# Altium schematic symbol library WE-MCI.SchLib: 49 symbols
Pins are listed as number, name and electrical type; pins without a type are passive.

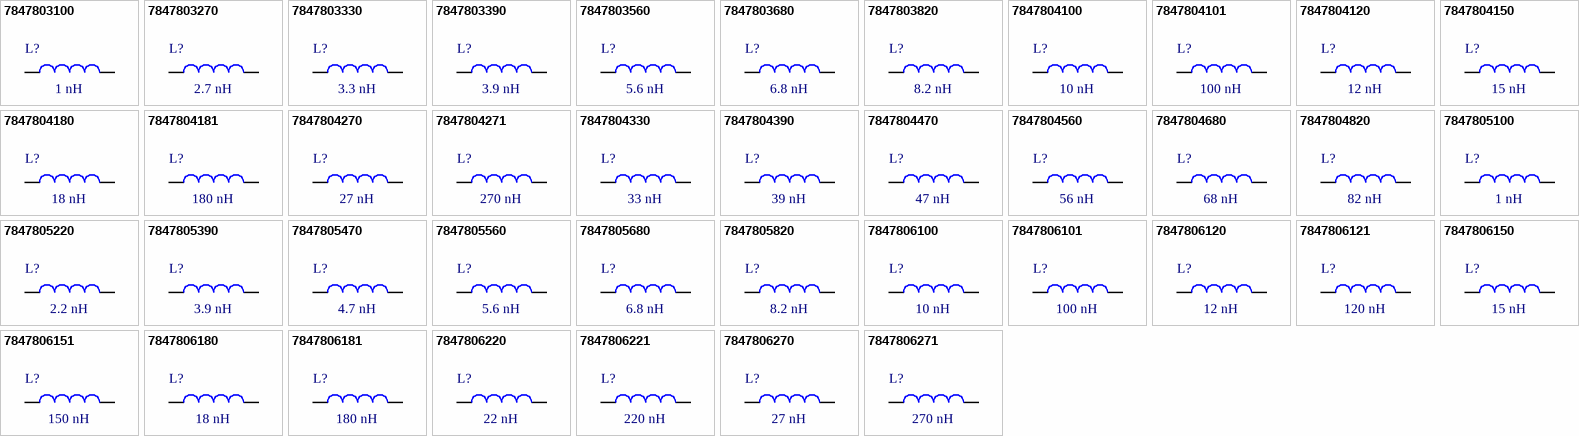
[diagram p0: symbols 7847803100 to 7847806271]

## 7847803100
designator L?, comment 1 nH
WE-MCI Multilayer Ceramic SMT Inductor, size 0402, 1 nH, 300 mA, 100 mΩ; Manufacturer Part Number: 7847803100; Manufacturer: Wurth Elektronik; Case/Size Code: 0402; DC Resistance Max: 100 mΩ; Inductance Tolerance: ±0.3nH; Q Factor Min: 8; Q Factor Test Condition: 100 MHz; Rated Current: 300 mA; Self Resonant Frequency: 8000 MHz; Category: RF Inductors; Match Code: WE-MCI; ComponentLink1Description: Website Link; ComponentLink1URL: https://www.we-online.com/redexpert/article/7847803100?ad; ComponentLink2Description: Datasheet Link; ComponentLink2URL: https://www.we-online.com/redexpert/spec/7847803100?ad; Mount: Surface Mount; Min Operating Temperature: -55 °C; Max Operating Temperature: 125 °C; Packaging: Tape and Reel; Length: 1 mm; Width: 0.5 mm; Height: 0.5 mm; Inductance: 1 nH
footprint WE-MCI_0402
simulation model 0402_7847803100_1n
pins: 1, 2

## 7847803270
designator L?, comment 2.7 nH
WE-MCI Multilayer Ceramic SMT Inductor, size 0402, 2.7 nH, 300 mA, 170 mΩ; Manufacturer Part Number: 7847803270; Manufacturer: Wurth Elektronik; Case/Size Code: 0402; DC Resistance Max: 170 mΩ; Inductance Tolerance: ±0.3nH; Q Factor Min: 8; Q Factor Test Condition: 100 MHz; Rated Current: 300 mA; Self Resonant Frequency: 6000 MHz; Category: RF Inductors; Match Code: WE-MCI; ComponentLink1Description: Website Link; ComponentLink1URL: https://www.we-online.com/redexpert/article/7847803270?ad; ComponentLink2Description: Datasheet Link; ComponentLink2URL: https://www.we-online.com/redexpert/spec/7847803270?ad; Mount: Surface Mount; Min Operating Temperature: -55 °C; Max Operating Temperature: 125 °C; Packaging: Tape and Reel; Length: 1 mm; Width: 0.5 mm; Height: 0.5 mm; Inductance: 2.7 nH
footprint WE-MCI_0402
simulation model 0402_7847803270_2.7n
pins: 1, 2

## 7847803330
designator L?, comment 3.3 nH
WE-MCI Multilayer Ceramic SMT Inductor, size 0402, 3.3 nH, 300 mA, 190 mΩ; Manufacturer Part Number: 7847803330; Manufacturer: Wurth Elektronik; Case/Size Code: 0402; DC Resistance Max: 190 mΩ; Inductance Tolerance: ±0.3nH; Q Factor Min: 8; Q Factor Test Condition: 100 MHz; Rated Current: 300 mA; Self Resonant Frequency: 6000 MHz; Category: RF Inductors; Match Code: WE-MCI; ComponentLink1Description: Website Link; ComponentLink1URL: https://www.we-online.com/redexpert/article/7847803330?ad; ComponentLink2Description: Datasheet Link; ComponentLink2URL: https://www.we-online.com/redexpert/spec/7847803330?ad; Mount: Surface Mount; Min Operating Temperature: -55 °C; Max Operating Temperature: 125 °C; Packaging: Tape and Reel; Length: 1 mm; Width: 0.5 mm; Height: 0.5 mm; Inductance: 3.3 nH
footprint WE-MCI_0402
simulation model 0402_7847803330_3.3n
pins: 1, 2

## 7847803390
designator L?, comment 3.9 nH
WE-MCI Multilayer Ceramic SMT Inductor, size 0402, 3.9 nH, 300 mA, 190 mΩ; Manufacturer Part Number: 7847803390; Manufacturer: Wurth Elektronik; Case/Size Code: 0402; DC Resistance Max: 190 mΩ; Inductance Tolerance: ±0.3nH; Q Factor Min: 8; Q Factor Test Condition: 100 MHz; Rated Current: 300 mA; Self Resonant Frequency: 6000 MHz; Category: RF Inductors; Match Code: WE-MCI; ComponentLink1Description: Website Link; ComponentLink1URL: https://www.we-online.com/redexpert/article/7847803390?ad; ComponentLink2Description: Datasheet Link; ComponentLink2URL: https://www.we-online.com/redexpert/spec/7847803390?ad; Mount: Surface Mount; Min Operating Temperature: -55 °C; Max Operating Temperature: 125 °C; Packaging: Tape and Reel; Length: 1 mm; Width: 0.5 mm; Height: 0.5 mm; Inductance: 3.9 nH
footprint WE-MCI_0402
simulation model 0402_7847803390_3.9n
pins: 1, 2

## 7847803560
designator L?, comment 5.6 nH
WE-MCI Multilayer Ceramic SMT Inductor, size 0402, 5.6 nH, 300 mA, 260 mΩ; Manufacturer Part Number: 7847803560; Manufacturer: Wurth Elektronik; Case/Size Code: 0402; DC Resistance Max: 260 mΩ; Inductance Tolerance: ±0.3nH; Q Factor Min: 8; Q Factor Test Condition: 100 MHz; Rated Current: 300 mA; Self Resonant Frequency: 5300 MHz; Category: RF Inductors; Match Code: WE-MCI; ComponentLink1Description: Website Link; ComponentLink1URL: https://www.we-online.com/redexpert/article/7847803560?ad; ComponentLink2Description: Datasheet Link; ComponentLink2URL: https://www.we-online.com/redexpert/spec/7847803560?ad; Mount: Surface Mount; Min Operating Temperature: -55 °C; Max Operating Temperature: 125 °C; Packaging: Tape and Reel; Length: 1 mm; Width: 0.5 mm; Height: 0.5 mm; Inductance: 5.6 nH
footprint WE-MCI_0402
simulation model 0402_7847803560_5.6n
pins: 1, 2

## 7847803680
designator L?, comment 6.8 nH
WE-MCI Multilayer Ceramic SMT Inductor, size 0402, 6.8 nH, 300 mA, 290 mΩ; Manufacturer Part Number: 7847803680; Manufacturer: Wurth Elektronik; Case/Size Code: 0402; DC Resistance Max: 290 mΩ; Inductance Tolerance: ±5%; Q Factor Min: 8; Q Factor Test Condition: 100 MHz; Rated Current: 300 mA; Self Resonant Frequency: 4200 MHz; Category: RF Inductors; Match Code: WE-MCI; ComponentLink1Description: Website Link; ComponentLink1URL: https://www.we-online.com/redexpert/article/7847803680?ad; ComponentLink2Description: Datasheet Link; ComponentLink2URL: https://www.we-online.com/redexpert/spec/7847803680?ad; Mount: Surface Mount; Min Operating Temperature: -55 °C; Max Operating Temperature: 125 °C; Packaging: Tape and Reel; Length: 1 mm; Width: 0.5 mm; Height: 0.5 mm; Inductance: 6.8 nH
footprint WE-MCI_0402
simulation model 0402_7847803680_6.8n
pins: 1, 2

## 7847803820
designator L?, comment 8.2 nH
WE-MCI Multilayer Ceramic SMT Inductor, size 0402, 8.2 nH, 300 mA, 330 mΩ; Manufacturer Part Number: 7847803820; Manufacturer: Wurth Elektronik; Case/Size Code: 0402; DC Resistance Max: 330 mΩ; Inductance Tolerance: ±5%; Q Factor Min: 8; Q Factor Test Condition: 100 MHz; Rated Current: 300 mA; Self Resonant Frequency: 3600 MHz; Category: RF Inductors; Match Code: WE-MCI; ComponentLink1Description: Website Link; ComponentLink1URL: https://www.we-online.com/redexpert/article/7847803820?ad; ComponentLink2Description: Datasheet Link; ComponentLink2URL: https://www.we-online.com/redexpert/spec/7847803820?ad; Mount: Surface Mount; Min Operating Temperature: -55 °C; Max Operating Temperature: 125 °C; Packaging: Tape and Reel; Length: 1 mm; Width: 0.5 mm; Height: 0.5 mm; Inductance: 8.2 nH
footprint WE-MCI_0402
simulation model 0402_7847803820_8.2n
pins: 1, 2

## 7847804100
designator L?, comment 10 nH
WE-MCI Multilayer Ceramic SMT Inductor, size 0402, 10 nH, 300 mA, 350 mΩ; Manufacturer Part Number: 7847804100; Manufacturer: Wurth Elektronik; Case/Size Code: 0402; DC Resistance Max: 350 mΩ; Inductance Tolerance: ±5%; Q Factor Min: 8; Q Factor Test Condition: 100 MHz; Rated Current: 300 mA; Self Resonant Frequency: 3200 MHz; Category: RF Inductors; Match Code: WE-MCI; ComponentLink1Description: Website Link; ComponentLink1URL: https://www.we-online.com/redexpert/article/7847804100?ad; ComponentLink2Description: Datasheet Link; ComponentLink2URL: https://www.we-online.com/redexpert/spec/7847804100?ad; Mount: Surface Mount; Min Operating Temperature: -55 °C; Max Operating Temperature: 125 °C; Packaging: Tape and Reel; Length: 1 mm; Width: 0.5 mm; Height: 0.5 mm; Inductance: 10 nH
footprint WE-MCI_0402
simulation model 0402_7847804100_10n
pins: 1, 2

## 7847804101
designator L?, comment 100 nH
WE-MCI Multilayer Ceramic SMT Inductor, size 0402, 100 nH, 150 mA, 1.6 Ω; Manufacturer Part Number: 7847804101; Manufacturer: Wurth Elektronik; Case/Size Code: 0402; DC Resistance Max: 1.6 Ω; Inductance Tolerance: ±5%; Q Factor Min: 8; Q Factor Test Condition: 100 MHz; Rated Current: 150 mA; Self Resonant Frequency: 600 MHz; Category: RF Inductors; Match Code: WE-MCI; ComponentLink1Description: Website Link; ComponentLink1URL: https://www.we-online.com/redexpert/article/7847804101?ad; ComponentLink2Description: Datasheet Link; ComponentLink2URL: https://www.we-online.com/redexpert/spec/7847804101?ad; Mount: Surface Mount; Min Operating Temperature: -55 °C; Max Operating Temperature: 125 °C; Packaging: Tape and Reel; Length: 1 mm; Width: 0.5 mm; Height: 0.5 mm; Inductance: 100 nH
footprint WE-MCI_0402
simulation model 0402_7847804101_100n
pins: 1, 2

## 7847804120
designator L?, comment 12 nH
WE-MCI Multilayer Ceramic SMT Inductor, size 0402, 12 nH, 300 mA, 410 mΩ; Manufacturer Part Number: 7847804120; Manufacturer: Wurth Elektronik; Case/Size Code: 0402; DC Resistance Max: 410 mΩ; Inductance Tolerance: ±5%; Q Factor Min: 8; Q Factor Test Condition: 100 MHz; Rated Current: 300 mA; Self Resonant Frequency: 2800 MHz; Category: RF Inductors; Match Code: WE-MCI; ComponentLink1Description: Website Link; ComponentLink1URL: https://www.we-online.com/redexpert/article/7847804120?ad; ComponentLink2Description: Datasheet Link; ComponentLink2URL: https://www.we-online.com/redexpert/spec/7847804120?ad; Mount: Surface Mount; Min Operating Temperature: -55 °C; Max Operating Temperature: 125 °C; Packaging: Tape and Reel; Length: 1 mm; Width: 0.5 mm; Height: 0.5 mm; Inductance: 12 nH
footprint WE-MCI_0402
simulation model 0402_7847804120_12n
pins: 1, 2

## 7847804150
designator L?, comment 15 nH
WE-MCI Multilayer Ceramic SMT Inductor, size 0402, 15 nH, 300 mA, 460 mΩ; Manufacturer Part Number: 7847804150; Manufacturer: Wurth Elektronik; Case/Size Code: 0402; DC Resistance Max: 460 mΩ; Inductance Tolerance: ±5%; Q Factor Min: 8; Q Factor Test Condition: 100 MHz; Rated Current: 300 mA; Self Resonant Frequency: 2300 MHz; Category: RF Inductors; Match Code: WE-MCI; ComponentLink1Description: Website Link; ComponentLink1URL: https://www.we-online.com/redexpert/article/7847804150?ad; ComponentLink2Description: Datasheet Link; ComponentLink2URL: https://www.we-online.com/redexpert/spec/7847804150?ad; Mount: Surface Mount; Min Operating Temperature: -55 °C; Max Operating Temperature: 125 °C; Packaging: Tape and Reel; Length: 1 mm; Width: 0.5 mm; Height: 0.5 mm; Inductance: 15 nH
footprint WE-MCI_0402
simulation model 0402_7847804150_15n
pins: 1, 2

## 7847804180
designator L?, comment 18 nH
WE-MCI Multilayer Ceramic SMT Inductor, size 0402, 18 nH, 300 mA, 510 mΩ; Manufacturer Part Number: 7847804180; Manufacturer: Wurth Elektronik; Case/Size Code: 0402; DC Resistance Max: 510 mΩ; Inductance Tolerance: ±5%; Q Factor Min: 8; Q Factor Test Condition: 100 MHz; Rated Current: 300 mA; Self Resonant Frequency: 2100 MHz; Category: RF Inductors; Match Code: WE-MCI; ComponentLink1Description: Website Link; ComponentLink1URL: https://www.we-online.com/redexpert/article/7847804180?ad; ComponentLink2Description: Datasheet Link; ComponentLink2URL: https://www.we-online.com/redexpert/spec/7847804180?ad; Mount: Surface Mount; Min Operating Temperature: -55 °C; Max Operating Temperature: 125 °C; Packaging: Tape and Reel; Length: 1 mm; Width: 0.5 mm; Height: 0.5 mm; Inductance: 18 nH
footprint WE-MCI_0402
simulation model 0402_7847804180_18n
pins: 1, 2

## 7847804181
designator L?, comment 180 nH
WE-MCI Multilayer Ceramic SMT Inductor, size 0402, 180 nH, 150 mA, 3.38 Ω; Manufacturer Part Number: 7847804181; Manufacturer: Wurth Elektronik; Case/Size Code: 0402; DC Resistance Max: 3.38 Ω; Inductance Tolerance: ±5%; Q Factor Min: 8; Q Factor Test Condition: 100 MHz; Rated Current: 150 mA; Self Resonant Frequency: 500 MHz; Category: RF Inductors; Match Code: WE-MCI; ComponentLink1Description: Website Link; ComponentLink1URL: https://www.we-online.com/redexpert/article/7847804181?ad; ComponentLink2Description: Datasheet Link; ComponentLink2URL: https://www.we-online.com/redexpert/spec/7847804181?ad; Mount: Surface Mount; Min Operating Temperature: -55 °C; Max Operating Temperature: 125 °C; Packaging: Tape and Reel; Length: 1 mm; Width: 0.5 mm; Height: 0.5 mm; Inductance: 180 nH
footprint WE-MCI_0402
simulation model 0402_7847804181_180n
pins: 1, 2

## 7847804270
designator L?, comment 27 nH
WE-MCI Multilayer Ceramic SMT Inductor, size 0402, 27 nH, 300 mA, 670 mΩ; Manufacturer Part Number: 7847804270; Manufacturer: Wurth Elektronik; Case/Size Code: 0402; DC Resistance Max: 670 mΩ; Inductance Tolerance: ±5%; Q Factor Min: 8; Q Factor Test Condition: 100 MHz; Rated Current: 300 mA; Self Resonant Frequency: 1600 MHz; Category: RF Inductors; Match Code: WE-MCI; ComponentLink1Description: Website Link; ComponentLink1URL: https://www.we-online.com/redexpert/article/7847804270?ad; ComponentLink2Description: Datasheet Link; ComponentLink2URL: https://www.we-online.com/redexpert/spec/7847804270?ad; Mount: Surface Mount; Min Operating Temperature: -55 °C; Max Operating Temperature: 125 °C; Packaging: Tape and Reel; Length: 1 mm; Width: 0.5 mm; Height: 0.5 mm; Inductance: 27 nH
footprint WE-MCI_0402
simulation model 0402_7847804270_27n
pins: 1, 2

## 7847804271
designator L?, comment 270 nH
WE-MCI Multilayer Ceramic SMT Inductor, size 0402, 270 nH, 110 mA, 4.9 Ω; Manufacturer Part Number: 7847804271; Manufacturer: Wurth Elektronik; Case/Size Code: 0402; DC Resistance Max: 4.9 Ω; Inductance Tolerance: ±5%; Q Factor Min: 8; Q Factor Test Condition: 100 MHz; Rated Current: 110 mA; Self Resonant Frequency: 500 MHz; Category: RF Inductors; Match Code: WE-MCI; ComponentLink1Description: Website Link; ComponentLink1URL: https://www.we-online.com/redexpert/article/7847804271?ad; ComponentLink2Description: Datasheet Link; ComponentLink2URL: https://www.we-online.com/redexpert/spec/7847804271?ad; Mount: Surface Mount; Min Operating Temperature: -55 °C; Max Operating Temperature: 125 °C; Packaging: Tape and Reel; Length: 1 mm; Width: 0.5 mm; Height: 0.5 mm; Inductance: 270 nH
footprint WE-MCI_0402
simulation model 0402_7847804271_270n
pins: 1, 2

## 7847804330
designator L?, comment 33 nH
WE-MCI Multilayer Ceramic SMT Inductor, size 0402, 33 nH, 200 mA, 670 mΩ; Manufacturer Part Number: 7847804330; Manufacturer: Wurth Elektronik; Case/Size Code: 0402; DC Resistance Max: 670 mΩ; Inductance Tolerance: ±5%; Q Factor Min: 8; Q Factor Test Condition: 100 MHz; Rated Current: 200 mA; Self Resonant Frequency: 1500 MHz; Category: RF Inductors; Match Code: WE-MCI; ComponentLink1Description: Website Link; ComponentLink1URL: https://www.we-online.com/redexpert/article/7847804330?ad; ComponentLink2Description: Datasheet Link; ComponentLink2URL: https://www.we-online.com/redexpert/spec/7847804330?ad; Mount: Surface Mount; Min Operating Temperature: -55 °C; Max Operating Temperature: 125 °C; Packaging: Tape and Reel; Length: 1 mm; Width: 0.5 mm; Height: 0.5 mm; Inductance: 33 nH
footprint WE-MCI_0402
simulation model 0402_7847804330_33n
pins: 1, 2

## 7847804390
designator L?, comment 39 nH
WE-MCI Multilayer Ceramic SMT Inductor, size 0402, 39 nH, 200 mA, 1.06 Ω; Manufacturer Part Number: 7847804390; Manufacturer: Wurth Elektronik; Case/Size Code: 0402; DC Resistance Max: 1.06 Ω; Inductance Tolerance: ±5%; Q Factor Min: 8; Q Factor Test Condition: 100 MHz; Rated Current: 200 mA; Self Resonant Frequency: 1200 MHz; Category: RF Inductors; Match Code: WE-MCI; ComponentLink1Description: Website Link; ComponentLink1URL: https://www.we-online.com/redexpert/article/7847804390?ad; ComponentLink2Description: Datasheet Link; ComponentLink2URL: https://www.we-online.com/redexpert/spec/7847804390?ad; Mount: Surface Mount; Min Operating Temperature: -55 °C; Max Operating Temperature: 125 °C; Packaging: Tape and Reel; Length: 1 mm; Width: 0.5 mm; Height: 0.5 mm; Inductance: 39 nH
footprint WE-MCI_0402
simulation model 0402_7847804390_39n
pins: 1, 2

## 7847804470
designator L?, comment 47 nH
WE-MCI Multilayer Ceramic SMT Inductor, size 0402, 47 nH, 200 mA, 1.15 Ω; Manufacturer Part Number: 7847804470; Manufacturer: Wurth Elektronik; Case/Size Code: 0402; DC Resistance Max: 1.15 Ω; Inductance Tolerance: ±5%; Q Factor Min: 8; Q Factor Test Condition: 100 MHz; Rated Current: 200 mA; Self Resonant Frequency: 1000 MHz; Category: RF Inductors; Match Code: WE-MCI; ComponentLink1Description: Website Link; ComponentLink1URL: https://www.we-online.com/redexpert/article/7847804470?ad; ComponentLink2Description: Datasheet Link; ComponentLink2URL: https://www.we-online.com/redexpert/spec/7847804470?ad; Mount: Surface Mount; Min Operating Temperature: -55 °C; Max Operating Temperature: 125 °C; Packaging: Tape and Reel; Length: 1 mm; Width: 0.5 mm; Height: 0.5 mm; Inductance: 47 nH
footprint WE-MCI_0402
simulation model 0402_7847804470_47n
pins: 1, 2

## 7847804560
designator L?, comment 56 nH
WE-MCI Multilayer Ceramic SMT Inductor, size 0402, 56 nH, 200 mA, 1.2 Ω; Manufacturer Part Number: 7847804560; Manufacturer: Wurth Elektronik; Case/Size Code: 0402; DC Resistance Max: 1.2 Ω; Inductance Tolerance: ±5%; Q Factor Min: 8; Q Factor Test Condition: 100 MHz; Rated Current: 200 mA; Self Resonant Frequency: 800 MHz; Category: RF Inductors; Match Code: WE-MCI; ComponentLink1Description: Website Link; ComponentLink1URL: https://www.we-online.com/redexpert/article/7847804560?ad; ComponentLink2Description: Datasheet Link; ComponentLink2URL: https://www.we-online.com/redexpert/spec/7847804560?ad; Mount: Surface Mount; Min Operating Temperature: -55 °C; Max Operating Temperature: 125 °C; Packaging: Tape and Reel; Length: 1 mm; Width: 0.5 mm; Height: 0.5 mm; Inductance: 56 nH
footprint WE-MCI_0402
simulation model 0402_7847804560_56n
pins: 1, 2

## 7847804680
designator L?, comment 68 nH
WE-MCI Multilayer Ceramic SMT Inductor, size 0402, 68 nH, 180 mA, 1.25 Ω; Manufacturer Part Number: 7847804680; Manufacturer: Wurth Elektronik; Case/Size Code: 0402; DC Resistance Max: 1.25 Ω; Inductance Tolerance: ±5%; Q Factor Min: 8; Q Factor Test Condition: 100 MHz; Rated Current: 180 mA; Self Resonant Frequency: 800 MHz; Category: RF Inductors; Match Code: WE-MCI; ComponentLink1Description: Website Link; ComponentLink1URL: https://www.we-online.com/redexpert/article/7847804680?ad; ComponentLink2Description: Datasheet Link; ComponentLink2URL: https://www.we-online.com/redexpert/spec/7847804680?ad; Mount: Surface Mount; Min Operating Temperature: -55 °C; Max Operating Temperature: 125 °C; Packaging: Tape and Reel; Length: 1 mm; Width: 0.5 mm; Height: 0.5 mm; Inductance: 68 nH
footprint WE-MCI_0402
simulation model 0402_7847804680_68n
pins: 1, 2

## 7847804820
designator L?, comment 82 nH
WE-MCI Multilayer Ceramic SMT Inductor, size 0402, 82 nH, 150 mA, 1.6 Ω; Manufacturer Part Number: 7847804820; Manufacturer: Wurth Elektronik; Case/Size Code: 0402; DC Resistance Max: 1.6 Ω; Inductance Tolerance: ±5%; Q Factor Min: 8; Q Factor Test Condition: 100 MHz; Rated Current: 150 mA; Self Resonant Frequency: 600 MHz; Category: RF Inductors; Match Code: WE-MCI; ComponentLink1Description: Website Link; ComponentLink1URL: https://www.we-online.com/redexpert/article/7847804820?ad; ComponentLink2Description: Datasheet Link; ComponentLink2URL: https://www.we-online.com/redexpert/spec/7847804820?ad; Mount: Surface Mount; Min Operating Temperature: -55 °C; Max Operating Temperature: 125 °C; Packaging: Tape and Reel; Length: 1 mm; Width: 0.5 mm; Height: 0.5 mm; Inductance: 82 nH
footprint WE-MCI_0402
simulation model 0402_7847804820_82n
pins: 1, 2

## 7847805100
designator L?, comment 1 nH
WE-MCI Multilayer Ceramic SMT Inductor, size 0603, 1 nH, 1.3 A, 50 mΩ; Manufacturer Part Number: 7847805100; Manufacturer: Wurth Elektronik; Case/Size Code: 0603; DC Resistance Max: 50 mΩ; Inductance Tolerance: ±0.3nH; Q Factor Min: 8; Q Factor Test Condition: 100 MHz; Rated Current: 1.3 A; Self Resonant Frequency: 10000 MHz; Category: RF Inductors; Match Code: WE-MCI; ComponentLink1Description: Website Link; ComponentLink1URL: https://www.we-online.com/redexpert/article/7847805100?ad; ComponentLink2Description: Datasheet Link; ComponentLink2URL: https://www.we-online.com/redexpert/spec/7847805100?ad; Mount: Surface Mount; Min Operating Temperature: -55 °C; Max Operating Temperature: 125 °C; Packaging: Tape and Reel; Length: 1.6 mm; Width: 0.8 mm; Height: 0.8 mm; Inductance: 1 nH
footprint WE-MCI_0603
simulation model 0603_7847805100_1n
pins: 1, 2

## 7847805220
designator L?, comment 2.2 nH
WE-MCI Multilayer Ceramic SMT Inductor, size 0603, 2.2 nH, 950 mA, 100 mΩ; Manufacturer Part Number: 7847805220; Manufacturer: Wurth Elektronik; Case/Size Code: 0603; DC Resistance Max: 100 mΩ; Inductance Tolerance: ±0.3nH; Q Factor Min: 8; Q Factor Test Condition: 100 MHz; Rated Current: 950 mA; Self Resonant Frequency: 6000 MHz; Category: RF Inductors; Match Code: WE-MCI; ComponentLink1Description: Website Link; ComponentLink1URL: https://www.we-online.com/redexpert/article/7847805220?ad; ComponentLink2Description: Datasheet Link; ComponentLink2URL: https://www.we-online.com/redexpert/spec/7847805220?ad; Mount: Surface Mount; Min Operating Temperature: -55 °C; Max Operating Temperature: 125 °C; Packaging: Tape and Reel; Length: 1.6 mm; Width: 0.8 mm; Height: 0.8 mm; Inductance: 2.2 nH
footprint WE-MCI_0603
simulation model 0603_7847805220_2.2n
pins: 1, 2

## 7847805390
designator L?, comment 3.9 nH
WE-MCI Multilayer Ceramic SMT Inductor, size 0603, 3.9 nH, 850 mA, 120 mΩ; Manufacturer Part Number: 7847805390; Manufacturer: Wurth Elektronik; Case/Size Code: 0603; DC Resistance Max: 120 mΩ; Inductance Tolerance: ±0.3nH; Q Factor Min: 10; Q Factor Test Condition: 100 MHz; Rated Current: 850 mA; Self Resonant Frequency: 6000 MHz; Category: RF Inductors; Match Code: WE-MCI; ComponentLink1Description: Website Link; ComponentLink1URL: https://www.we-online.com/redexpert/article/7847805390?ad; ComponentLink2Description: Datasheet Link; ComponentLink2URL: https://www.we-online.com/redexpert/spec/7847805390?ad; Mount: Surface Mount; Min Operating Temperature: -55 °C; Max Operating Temperature: 125 °C; Packaging: Tape and Reel; Length: 1.6 mm; Width: 0.8 mm; Height: 0.8 mm; Inductance: 3.9 nH
footprint WE-MCI_0603
simulation model 0603_7847805390_3.9n
pins: 1, 2

## 7847805470
designator L?, comment 4.7 nH
WE-MCI Multilayer Ceramic SMT Inductor, size 0603, 4.7 nH, 700 mA, 140 mΩ; Manufacturer Part Number: 7847805470; Manufacturer: Wurth Elektronik; Case/Size Code: 0603; DC Resistance Max: 140 mΩ; Inductance Tolerance: ±0.3nH; Q Factor Min: 10; Q Factor Test Condition: 100 MHz; Rated Current: 700 mA; Self Resonant Frequency: 4000 MHz; Category: RF Inductors; Match Code: WE-MCI; ComponentLink1Description: Website Link; ComponentLink1URL: https://www.we-online.com/redexpert/article/7847805470?ad; ComponentLink2Description: Datasheet Link; ComponentLink2URL: https://www.we-online.com/redexpert/spec/7847805470?ad; Mount: Surface Mount; Min Operating Temperature: -55 °C; Max Operating Temperature: 125 °C; Packaging: Tape and Reel; Length: 1.6 mm; Width: 0.8 mm; Height: 0.8 mm; Inductance: 4.7 nH
footprint WE-MCI_0603
simulation model 0603_7847805470_4.7n
pins: 1, 2

## 7847805560
designator L?, comment 5.6 nH
WE-MCI Multilayer Ceramic SMT Inductor, size 0603, 5.6 nH, 700 mA, 140 mΩ; Manufacturer Part Number: 7847805560; Manufacturer: Wurth Elektronik; Case/Size Code: 0603; DC Resistance Max: 140 mΩ; Inductance Tolerance: ±0.3nH; Q Factor Min: 10; Q Factor Test Condition: 100 MHz; Rated Current: 700 mA; Self Resonant Frequency: 4000 MHz; Category: RF Inductors; Match Code: WE-MCI; ComponentLink1Description: Website Link; ComponentLink1URL: https://www.we-online.com/redexpert/article/7847805560?ad; ComponentLink2Description: Datasheet Link; ComponentLink2URL: https://www.we-online.com/redexpert/spec/7847805560?ad; Mount: Surface Mount; Min Operating Temperature: -55 °C; Max Operating Temperature: 125 °C; Packaging: Tape and Reel; Length: 1.6 mm; Width: 0.8 mm; Height: 0.8 mm; Inductance: 5.6 nH
footprint WE-MCI_0603
simulation model 0603_7847805560_5.6n
pins: 1, 2

## 7847805680
designator L?, comment 6.8 nH
WE-MCI Multilayer Ceramic SMT Inductor, size 0603, 6.8 nH, 650 mA, 160 mΩ; Manufacturer Part Number: 7847805680; Manufacturer: Wurth Elektronik; Case/Size Code: 0603; DC Resistance Max: 160 mΩ; Inductance Tolerance: ±5%; Q Factor Min: 10; Q Factor Test Condition: 100 MHz; Rated Current: 650 mA; Self Resonant Frequency: 4000 MHz; Category: RF Inductors; Match Code: WE-MCI; ComponentLink1Description: Website Link; ComponentLink1URL: https://www.we-online.com/redexpert/article/7847805680?ad; ComponentLink2Description: Datasheet Link; ComponentLink2URL: https://www.we-online.com/redexpert/spec/7847805680?ad; Mount: Surface Mount; Min Operating Temperature: -55 °C; Max Operating Temperature: 125 °C; Packaging: Tape and Reel; Length: 1.6 mm; Width: 0.8 mm; Height: 0.8 mm; Inductance: 6.8 nH
footprint WE-MCI_0603
simulation model 0603_7847805680_6.8n
pins: 1, 2

## 7847805820
designator L?, comment 8.2 nH
WE-MCI Multilayer Ceramic SMT Inductor, size 0603, 8.2 nH, 650 mA, 160 mΩ; Manufacturer Part Number: 7847805820; Manufacturer: Wurth Elektronik; Case/Size Code: 0603; DC Resistance Max: 160 mΩ; Inductance Tolerance: ±5%; Q Factor Min: 10; Q Factor Test Condition: 100 MHz; Rated Current: 650 mA; Self Resonant Frequency: 3500 MHz; Category: RF Inductors; Match Code: WE-MCI; ComponentLink1Description: Website Link; ComponentLink1URL: https://www.we-online.com/redexpert/article/7847805820?ad; ComponentLink2Description: Datasheet Link; ComponentLink2URL: https://www.we-online.com/redexpert/spec/7847805820?ad; Mount: Surface Mount; Min Operating Temperature: -55 °C; Max Operating Temperature: 125 °C; Packaging: Tape and Reel; Length: 1.6 mm; Width: 0.8 mm; Height: 0.8 mm; Inductance: 8.2 nH
footprint WE-MCI_0603
simulation model 0603_7847805820_8.2n
pins: 1, 2

## 7847806100
designator L?, comment 10 nH
WE-MCI Multilayer Ceramic SMT Inductor, size 0603, 10 nH, 550 mA, 240 mΩ; Manufacturer Part Number: 7847806100; Manufacturer: Wurth Elektronik; Case/Size Code: 0603; DC Resistance Max: 240 mΩ; Inductance Tolerance: ±5%; Q Factor Min: 12; Q Factor Test Condition: 100 MHz; Rated Current: 550 mA; Self Resonant Frequency: 3400 MHz; Category: RF Inductors; Match Code: WE-MCI; ComponentLink1Description: Website Link; ComponentLink1URL: https://www.we-online.com/redexpert/article/7847806100?ad; ComponentLink2Description: Datasheet Link; ComponentLink2URL: https://www.we-online.com/redexpert/spec/7847806100?ad; Mount: Surface Mount; Min Operating Temperature: -55 °C; Max Operating Temperature: 125 °C; Packaging: Tape and Reel; Length: 1.6 mm; Width: 0.8 mm; Height: 0.8 mm; Inductance: 10 nH
footprint WE-MCI_0603
simulation model 0603_7847806100_10n
pins: 1, 2

## 7847806101
designator L?, comment 100 nH
WE-MCI Multilayer Ceramic SMT Inductor, size 0603, 100 nH, 300 mA, 850 mΩ; Manufacturer Part Number: 7847806101; Manufacturer: Wurth Elektronik; Case/Size Code: 0603; DC Resistance Max: 850 mΩ; Inductance Tolerance: ±5%; Q Factor Min: 12; Q Factor Test Condition: 100 MHz; Rated Current: 300 mA; Self Resonant Frequency: 600 MHz; Category: RF Inductors; Match Code: WE-MCI; ComponentLink1Description: Website Link; ComponentLink1URL: https://www.we-online.com/redexpert/article/7847806101?ad; ComponentLink2Description: Datasheet Link; ComponentLink2URL: https://www.we-online.com/redexpert/spec/7847806101?ad; Mount: Surface Mount; Min Operating Temperature: -55 °C; Max Operating Temperature: 125 °C; Packaging: Tape and Reel; Length: 1.6 mm; Width: 0.8 mm; Height: 0.8 mm; Inductance: 100 nH
footprint WE-MCI_0603
simulation model 0603_7847806101_100n
pins: 1, 2

## 7847806120
designator L?, comment 12 nH
WE-MCI Multilayer Ceramic SMT Inductor, size 0603, 12 nH, 550 mA, 240 mΩ; Manufacturer Part Number: 7847806120; Manufacturer: Wurth Elektronik; Case/Size Code: 0603; DC Resistance Max: 240 mΩ; Inductance Tolerance: ±5%; Q Factor Min: 12; Q Factor Test Condition: 100 MHz; Rated Current: 550 mA; Self Resonant Frequency: 2600 MHz; Category: RF Inductors; Match Code: WE-MCI; ComponentLink1Description: Website Link; ComponentLink1URL: https://www.we-online.com/redexpert/article/7847806120?ad; ComponentLink2Description: Datasheet Link; ComponentLink2URL: https://www.we-online.com/redexpert/spec/7847806120?ad; Mount: Surface Mount; Min Operating Temperature: -55 °C; Max Operating Temperature: 125 °C; Packaging: Tape and Reel; Length: 1.6 mm; Width: 0.8 mm; Height: 0.8 mm; Inductance: 12 nH
footprint WE-MCI_0603
simulation model 0603_7847806120_12n
pins: 1, 2

## 7847806121
designator L?, comment 120 nH
WE-MCI Multilayer Ceramic SMT Inductor, size 0603, 120 nH, 300 mA, 850 mΩ; Manufacturer Part Number: 7847806121; Manufacturer: Wurth Elektronik; Case/Size Code: 0603; DC Resistance Max: 850 mΩ; Inductance Tolerance: ±5%; Q Factor Min: 8; Q Factor Test Condition: 50 MHz; Rated Current: 300 mA; Self Resonant Frequency: 500 MHz; Category: RF Inductors; Match Code: WE-MCI; ComponentLink1Description: Website Link; ComponentLink1URL: https://www.we-online.com/redexpert/article/7847806121?ad; ComponentLink2Description: Datasheet Link; ComponentLink2URL: https://www.we-online.com/redexpert/spec/7847806121?ad; Mount: Surface Mount; Min Operating Temperature: -55 °C; Max Operating Temperature: 125 °C; Packaging: Tape and Reel; Length: 1.6 mm; Width: 0.8 mm; Height: 0.8 mm; Inductance: 120 nH
footprint WE-MCI_0603
simulation model 0603_7847806121_120n
pins: 1, 2

## 7847806150
designator L?, comment 15 nH
WE-MCI Multilayer Ceramic SMT Inductor, size 0603, 15 nH, 550 mA, 240 mΩ; Manufacturer Part Number: 7847806150; Manufacturer: Wurth Elektronik; Case/Size Code: 0603; DC Resistance Max: 240 mΩ; Inductance Tolerance: ±5%; Q Factor Min: 12; Q Factor Test Condition: 100 MHz; Rated Current: 550 mA; Self Resonant Frequency: 2300 MHz; Category: RF Inductors; Match Code: WE-MCI; ComponentLink1Description: Website Link; ComponentLink1URL: https://www.we-online.com/redexpert/article/7847806150?ad; ComponentLink2Description: Datasheet Link; ComponentLink2URL: https://www.we-online.com/redexpert/spec/7847806150?ad; Mount: Surface Mount; Min Operating Temperature: -55 °C; Max Operating Temperature: 125 °C; Packaging: Tape and Reel; Length: 1.6 mm; Width: 0.8 mm; Height: 0.8 mm; Inductance: 15 nH
footprint WE-MCI_0603
simulation model 0603_7847806150_15n
pins: 1, 2

## 7847806151
designator L?, comment 150 nH
WE-MCI Multilayer Ceramic SMT Inductor, size 0603, 150 nH, 300 mA, 1.2 Ω; Manufacturer Part Number: 7847806151; Manufacturer: Wurth Elektronik; Case/Size Code: 0603; DC Resistance Max: 1.2 Ω; Inductance Tolerance: ±5%; Q Factor Min: 8; Q Factor Test Condition: 50 MHz; Rated Current: 300 mA; Self Resonant Frequency: 500 MHz; Category: RF Inductors; Match Code: WE-MCI; ComponentLink1Description: Website Link; ComponentLink1URL: https://www.we-online.com/redexpert/article/7847806151?ad; ComponentLink2Description: Datasheet Link; ComponentLink2URL: https://www.we-online.com/redexpert/spec/7847806151?ad; Mount: Surface Mount; Min Operating Temperature: -55 °C; Max Operating Temperature: 125 °C; Packaging: Tape and Reel; Length: 1.6 mm; Width: 0.8 mm; Height: 0.8 mm; Inductance: 150 nH
footprint WE-MCI_0603
simulation model 0603_7847806151_150n
pins: 1, 2

## 7847806180
designator L?, comment 18 nH
WE-MCI Multilayer Ceramic SMT Inductor, size 0603, 18 nH, 550 mA, 240 mΩ; Manufacturer Part Number: 7847806180; Manufacturer: Wurth Elektronik; Case/Size Code: 0603; DC Resistance Max: 240 mΩ; Inductance Tolerance: ±5%; Q Factor Min: 12; Q Factor Test Condition: 100 MHz; Rated Current: 550 mA; Self Resonant Frequency: 2000 MHz; Category: RF Inductors; Match Code: WE-MCI; ComponentLink1Description: Website Link; ComponentLink1URL: https://www.we-online.com/redexpert/article/7847806180?ad; ComponentLink2Description: Datasheet Link; ComponentLink2URL: https://www.we-online.com/redexpert/spec/7847806180?ad; Mount: Surface Mount; Min Operating Temperature: -55 °C; Max Operating Temperature: 125 °C; Packaging: Tape and Reel; Length: 1.6 mm; Width: 0.8 mm; Height: 0.8 mm; Inductance: 18 nH
footprint WE-MCI_0603
simulation model 0603_7847806180_18n
pins: 1, 2

## 7847806181
designator L?, comment 180 nH
WE-MCI Multilayer Ceramic SMT Inductor, size 0603, 180 nH, 300 mA, 1.2 Ω; Manufacturer Part Number: 7847806181; Manufacturer: Wurth Elektronik; Case/Size Code: 0603; DC Resistance Max: 1.2 Ω; Inductance Tolerance: ±5%; Q Factor Min: 8; Q Factor Test Condition: 50 MHz; Rated Current: 300 mA; Self Resonant Frequency: 400 MHz; Category: RF Inductors; Match Code: WE-MCI; ComponentLink1Description: Website Link; ComponentLink1URL: https://www.we-online.com/redexpert/article/7847806181?ad; ComponentLink2Description: Datasheet Link; ComponentLink2URL: https://www.we-online.com/redexpert/spec/7847806181?ad; Mount: Surface Mount; Min Operating Temperature: -55 °C; Max Operating Temperature: 125 °C; Packaging: Tape and Reel; Length: 1.6 mm; Width: 0.8 mm; Height: 0.8 mm; Inductance: 180 nH
footprint WE-MCI_0603
simulation model 0603_7847806181_180n
pins: 1, 2

## 7847806220
designator L?, comment 22 nH
WE-MCI Multilayer Ceramic SMT Inductor, size 0603, 22 nH, 500 mA, 340 mΩ; Manufacturer Part Number: 7847806220; Manufacturer: Wurth Elektronik; Case/Size Code: 0603; DC Resistance Max: 340 mΩ; Inductance Tolerance: ±5%; Q Factor Min: 12; Q Factor Test Condition: 100 MHz; Rated Current: 500 mA; Self Resonant Frequency: 1600 MHz; Category: RF Inductors; Match Code: WE-MCI; ComponentLink1Description: Website Link; ComponentLink1URL: https://www.we-online.com/redexpert/article/7847806220?ad; ComponentLink2Description: Datasheet Link; ComponentLink2URL: https://www.we-online.com/redexpert/spec/7847806220?ad; Mount: Surface Mount; Min Operating Temperature: -55 °C; Max Operating Temperature: 125 °C; Packaging: Tape and Reel; Length: 1.6 mm; Width: 0.8 mm; Height: 0.8 mm; Inductance: 22 nH
footprint WE-MCI_0603
simulation model 0603_7847806220_22n
pins: 1, 2

## 7847806221
designator L?, comment 220 nH
WE-MCI Multilayer Ceramic SMT Inductor, size 0603, 220 nH, 250 mA, 1.2 Ω; Manufacturer Part Number: 7847806221; Manufacturer: Wurth Elektronik; Case/Size Code: 0603; DC Resistance Max: 1.2 Ω; Inductance Tolerance: ±5%; Q Factor Min: 8; Q Factor Test Condition: 50 MHz; Rated Current: 250 mA; Self Resonant Frequency: 400 MHz; Category: RF Inductors; Match Code: WE-MCI; ComponentLink1Description: Website Link; ComponentLink1URL: https://www.we-online.com/redexpert/article/7847806221?ad; ComponentLink2Description: Datasheet Link; ComponentLink2URL: https://www.we-online.com/redexpert/spec/7847806221?ad; Mount: Surface Mount; Min Operating Temperature: -55 °C; Max Operating Temperature: 125 °C; Packaging: Tape and Reel; Length: 1.6 mm; Width: 0.8 mm; Height: 0.8 mm; Inductance: 220 nH
footprint WE-MCI_0603
simulation model 0603_7847806221_220n
pins: 1, 2

## 7847806270
designator L?, comment 27 nH
WE-MCI Multilayer Ceramic SMT Inductor, size 0603, 27 nH, 500 mA, 340 mΩ; Manufacturer Part Number: 7847806270; Manufacturer: Wurth Elektronik; Case/Size Code: 0603; DC Resistance Max: 340 mΩ; Inductance Tolerance: ±5%; Q Factor Min: 12; Q Factor Test Condition: 100 MHz; Rated Current: 500 mA; Self Resonant Frequency: 1400 MHz; Category: RF Inductors; Match Code: WE-MCI; ComponentLink1Description: Website Link; ComponentLink1URL: https://www.we-online.com/redexpert/article/7847806270?ad; ComponentLink2Description: Datasheet Link; ComponentLink2URL: https://www.we-online.com/redexpert/spec/7847806270?ad; Mount: Surface Mount; Min Operating Temperature: -55 °C; Max Operating Temperature: 125 °C; Packaging: Tape and Reel; Length: 1.6 mm; Width: 0.8 mm; Height: 0.8 mm; Inductance: 27 nH
footprint WE-MCI_0603
simulation model 0603_7847806270_27n
pins: 1, 2

## 7847806271
designator L?, comment 270 nH
WE-MCI Multilayer Ceramic SMT Inductor, size 0603, 270 nH, 250 mA, 1.9 Ω; Manufacturer Part Number: 7847806271; Manufacturer: Wurth Elektronik; Case/Size Code: 0603; DC Resistance Max: 1.9 Ω; Inductance Tolerance: ±5%; Q Factor Min: 8; Q Factor Test Condition: 50 MHz; Rated Current: 250 mA; Self Resonant Frequency: 400 MHz; Category: RF Inductors; Match Code: WE-MCI; ComponentLink1Description: Website Link; ComponentLink1URL: https://www.we-online.com/redexpert/article/7847806271?ad; ComponentLink2Description: Datasheet Link; ComponentLink2URL: https://www.we-online.com/redexpert/spec/7847806271?ad; Mount: Surface Mount; Min Operating Temperature: -55 °C; Max Operating Temperature: 125 °C; Packaging: Tape and Reel; Length: 1.6 mm; Width: 0.8 mm; Height: 0.8 mm; Inductance: 270 nH
footprint WE-MCI_0603
simulation model 0603_7847806271_270n
pins: 1, 2

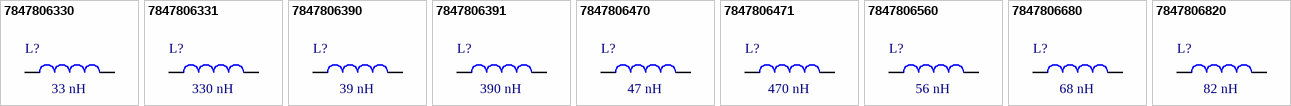
[diagram p1: symbols 7847806330 to 7847806820]

## 7847806330
designator L?, comment 33 nH
WE-MCI Multilayer Ceramic SMT Inductor, size 0603, 33 nH, 400 mA, 450 mΩ; Manufacturer Part Number: 7847806330; Manufacturer: Wurth Elektronik; Case/Size Code: 0603; DC Resistance Max: 450 mΩ; Inductance Tolerance: ±5%; Q Factor Min: 12; Q Factor Test Condition: 100 MHz; Rated Current: 400 mA; Self Resonant Frequency: 1200 MHz; Category: RF Inductors; Match Code: WE-MCI; ComponentLink1Description: Website Link; ComponentLink1URL: https://www.we-online.com/redexpert/article/7847806330?ad; ComponentLink2Description: Datasheet Link; ComponentLink2URL: https://www.we-online.com/redexpert/spec/7847806330?ad; Mount: Surface Mount; Min Operating Temperature: -55 °C; Max Operating Temperature: 125 °C; Packaging: Tape and Reel; Length: 1.6 mm; Width: 0.8 mm; Height: 0.8 mm; Inductance: 33 nH
footprint WE-MCI_0603
simulation model 0603_7847806330_33n
pins: 1, 2

## 7847806331
designator L?, comment 330 nH
WE-MCI Multilayer Ceramic SMT Inductor, size 0603, 330 nH, 250 mA, 1.9 Ω; Manufacturer Part Number: 7847806331; Manufacturer: Wurth Elektronik; Case/Size Code: 0603; DC Resistance Max: 1.9 Ω; Inductance Tolerance: ±5%; Q Factor Min: 8; Q Factor Test Condition: 50 MHz; Rated Current: 250 mA; Self Resonant Frequency: 350 MHz; Category: RF Inductors; Match Code: WE-MCI; ComponentLink1Description: Website Link; ComponentLink1URL: https://www.we-online.com/redexpert/article/7847806331?ad; ComponentLink2Description: Datasheet Link; ComponentLink2URL: https://www.we-online.com/redexpert/spec/7847806331?ad; Mount: Surface Mount; Min Operating Temperature: -55 °C; Max Operating Temperature: 125 °C; Packaging: Tape and Reel; Length: 1.6 mm; Width: 0.8 mm; Height: 0.8 mm; Inductance: 330 nH
footprint WE-MCI_0603
simulation model 0603_7847806331_330n
pins: 1, 2

## 7847806390
designator L?, comment 39 nH
WE-MCI Multilayer Ceramic SMT Inductor, size 0603, 39 nH, 400 mA, 450 mΩ; Manufacturer Part Number: 7847806390; Manufacturer: Wurth Elektronik; Case/Size Code: 0603; DC Resistance Max: 450 mΩ; Inductance Tolerance: ±5%; Q Factor Min: 12; Q Factor Test Condition: 100 MHz; Rated Current: 400 mA; Self Resonant Frequency: 1100 MHz; Category: RF Inductors; Match Code: WE-MCI; ComponentLink1Description: Website Link; ComponentLink1URL: https://www.we-online.com/redexpert/article/7847806390?ad; ComponentLink2Description: Datasheet Link; ComponentLink2URL: https://www.we-online.com/redexpert/spec/7847806390?ad; Mount: Surface Mount; Min Operating Temperature: -55 °C; Max Operating Temperature: 125 °C; Packaging: Tape and Reel; Length: 1.6 mm; Width: 0.8 mm; Height: 0.8 mm; Inductance: 39 nH
footprint WE-MCI_0603
simulation model 0603_7847806390_39n
pins: 1, 2

## 7847806391
designator L?, comment 390 nH
WE-MCI Multilayer Ceramic SMT Inductor, size 0603, 390 nH, 150 mA, 2.3 Ω; Manufacturer Part Number: 7847806391; Manufacturer: Wurth Elektronik; Case/Size Code: 0603; DC Resistance Max: 2.3 Ω; Inductance Tolerance: ±5%; Q Factor Min: 8; Q Factor Test Condition: 50 MHz; Rated Current: 150 mA; Self Resonant Frequency: 350 MHz; Category: RF Inductors; Match Code: WE-MCI; ComponentLink1Description: Website Link; ComponentLink1URL: https://www.we-online.com/redexpert/article/7847806391?ad; ComponentLink2Description: Datasheet Link; ComponentLink2URL: https://www.we-online.com/redexpert/spec/7847806391?ad; Mount: Surface Mount; Min Operating Temperature: -55 °C; Max Operating Temperature: 125 °C; Packaging: Tape and Reel; Length: 1.6 mm; Width: 0.8 mm; Height: 0.8 mm; Inductance: 390 nH
footprint WE-MCI_0603
simulation model 0603_7847806391_390n
pins: 1, 2

## 7847806470
designator L?, comment 47 nH
WE-MCI Multilayer Ceramic SMT Inductor, size 0603, 47 nH, 350 mA, 650 mΩ; Manufacturer Part Number: 7847806470; Manufacturer: Wurth Elektronik; Case/Size Code: 0603; DC Resistance Max: 650 mΩ; Inductance Tolerance: ±5%; Q Factor Min: 12; Q Factor Test Condition: 100 MHz; Rated Current: 350 mA; Self Resonant Frequency: 900 MHz; Category: RF Inductors; Match Code: WE-MCI; ComponentLink1Description: Website Link; ComponentLink1URL: https://www.we-online.com/redexpert/article/7847806470?ad; ComponentLink2Description: Datasheet Link; ComponentLink2URL: https://www.we-online.com/redexpert/spec/7847806470?ad; Mount: Surface Mount; Min Operating Temperature: -55 °C; Max Operating Temperature: 125 °C; Packaging: Tape and Reel; Length: 1.6 mm; Width: 0.8 mm; Height: 0.8 mm; Inductance: 47 nH
footprint WE-MCI_0603
simulation model 0603_7847806470_47n
pins: 1, 2

## 7847806471
designator L?, comment 470 nH
WE-MCI Multilayer Ceramic SMT Inductor, size 0603, 470 nH, 150 mA, 2.5 Ω; Manufacturer Part Number: 7847806471; Manufacturer: Wurth Elektronik; Case/Size Code: 0603; DC Resistance Max: 2.5 Ω; Inductance Tolerance: ±5%; Q Factor Min: 8; Q Factor Test Condition: 50 MHz; Rated Current: 150 mA; Self Resonant Frequency: 300 MHz; Category: RF Inductors; Match Code: WE-MCI; ComponentLink1Description: Website Link; ComponentLink1URL: https://www.we-online.com/redexpert/article/7847806471?ad; ComponentLink2Description: Datasheet Link; ComponentLink2URL: https://www.we-online.com/redexpert/spec/7847806471?ad; Mount: Surface Mount; Min Operating Temperature: -55 °C; Max Operating Temperature: 125 °C; Packaging: Tape and Reel; Length: 1.6 mm; Width: 0.8 mm; Height: 0.8 mm; Inductance: 470 nH
footprint WE-MCI_0603
simulation model 0603_7847806471_470n
pins: 1, 2

## 7847806560
designator L?, comment 56 nH
WE-MCI Multilayer Ceramic SMT Inductor, size 0603, 56 nH, 350 mA, 650 mΩ; Manufacturer Part Number: 7847806560; Manufacturer: Wurth Elektronik; Case/Size Code: 0603; DC Resistance Max: 650 mΩ; Inductance Tolerance: ±5%; Q Factor Min: 12; Q Factor Test Condition: 100 MHz; Rated Current: 350 mA; Self Resonant Frequency: 900 MHz; Category: RF Inductors; Match Code: WE-MCI; ComponentLink1Description: Website Link; ComponentLink1URL: https://www.we-online.com/redexpert/article/7847806560?ad; ComponentLink2Description: Datasheet Link; ComponentLink2URL: https://www.we-online.com/redexpert/spec/7847806560?ad; Mount: Surface Mount; Min Operating Temperature: -55 °C; Max Operating Temperature: 125 °C; Packaging: Tape and Reel; Length: 1.6 mm; Width: 0.8 mm; Height: 0.8 mm; Inductance: 56 nH
footprint WE-MCI_0603
simulation model 0603_7847806560_56n
pins: 1, 2

## 7847806680
designator L?, comment 68 nH
WE-MCI Multilayer Ceramic SMT Inductor, size 0603, 68 nH, 350 mA, 650 mΩ; Manufacturer Part Number: 7847806680; Manufacturer: Wurth Elektronik; Case/Size Code: 0603; DC Resistance Max: 650 mΩ; Inductance Tolerance: ±5%; Q Factor Min: 12; Q Factor Test Condition: 100 MHz; Rated Current: 350 mA; Self Resonant Frequency: 700 MHz; Category: RF Inductors; Match Code: WE-MCI; ComponentLink1Description: Website Link; ComponentLink1URL: https://www.we-online.com/redexpert/article/7847806680?ad; ComponentLink2Description: Datasheet Link; ComponentLink2URL: https://www.we-online.com/redexpert/spec/7847806680?ad; Mount: Surface Mount; Min Operating Temperature: -55 °C; Max Operating Temperature: 125 °C; Packaging: Tape and Reel; Length: 1.6 mm; Width: 0.8 mm; Height: 0.8 mm; Inductance: 68 nH
footprint WE-MCI_0603
simulation model 0603_7847806680_68n
pins: 1, 2

## 7847806820
designator L?, comment 82 nH
WE-MCI Multilayer Ceramic SMT Inductor, size 0603, 82 nH, 300 mA, 850 mΩ; Manufacturer Part Number: 7847806820; Manufacturer: Wurth Elektronik; Case/Size Code: 0603; DC Resistance Max: 850 mΩ; Inductance Tolerance: ±5%; Q Factor Min: 12; Q Factor Test Condition: 100 MHz; Rated Current: 300 mA; Self Resonant Frequency: 600 MHz; Category: RF Inductors; Match Code: WE-MCI; ComponentLink1Description: Website Link; ComponentLink1URL: https://www.we-online.com/redexpert/article/7847806820?ad; ComponentLink2Description: Datasheet Link; ComponentLink2URL: https://www.we-online.com/redexpert/spec/7847806820?ad; Mount: Surface Mount; Min Operating Temperature: -55 °C; Max Operating Temperature: 125 °C; Packaging: Tape and Reel; Length: 1.6 mm; Width: 0.8 mm; Height: 0.8 mm; Inductance: 82 nH
footprint WE-MCI_0603
simulation model 0603_7847806820_82n
pins: 1, 2